# Altium footprint library PCB_LIB.PcbLib: 86 footprints (part 1 of 6)
Each footprint in its own frame and in the unit in brackets; x right, y up, seen from the top. Pads: shape width x height; smd on the part's side, far side on the other; paste and mask are expansions set on the pad; w line width, h text height; cw(c..) or ccw(c..) is an arc to the next point about the centre after c.
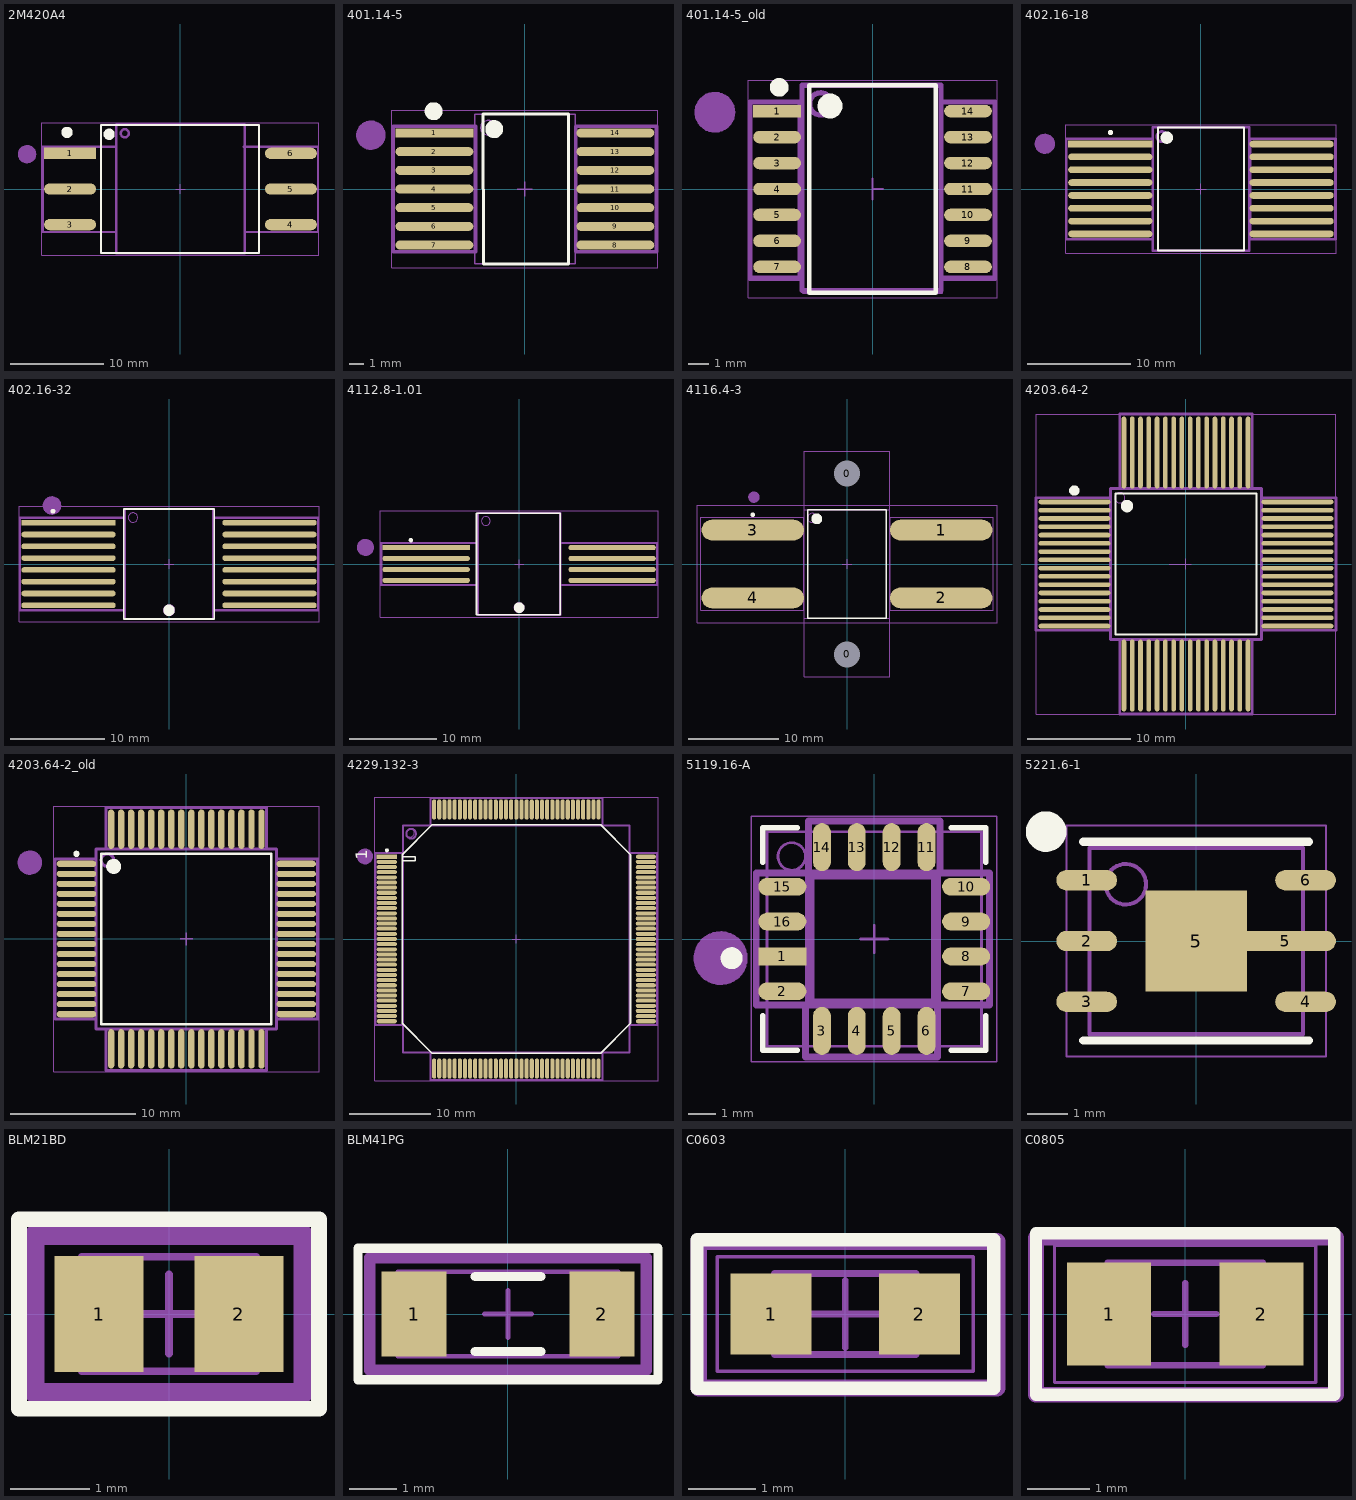
[diagram p0: the footprints below, top view; thin cyan lines are the x and y axes]

## 2М420А4 [mm] "CFP, 6-Leads, Body 13,70x13,70mm (max), Pitch 3,81mm, IPC Medium Density"
height 6.6
pads (6):
  rect 5.55x1.2 smd: 1(-11.8,3.81)
  oval 5.55x1.2 smd: 2(-11.8,0) 3(-11.8,-3.81) 4(11.8,-3.81) 5(11.8,0) 6(11.8,3.81)
Top Overlay:
  circle w0.6: c-12.125,6.05 r0.3
  circle w0.6: c-7.625,5.85 r0.3
  lines w0.2: -8.5,-6.85 -8.5,6.85 8.4,6.85 8.4,-6.85 -8.5,-6.85
Top Sborka:
  circle w0.25: c-16.392,3.719 r0.704
  circle w0.25: c-16.392,3.719 r0.292
  circle w0.25: c-16.392,3.719 r0.861
  circle w0.25: c-16.392,3.719 r0.506
  circle w0.25: c-16.392,3.719 r0.09
  circle w0.8: c-16.392,3.719 r0.4
  circle w0.25: c-5.95,5.95 r0.43
  lines w0.25: -6.9,-4.6 -14.7,-4.6 -14.7,4.5 -9.6,4.5 -6.9,4.5 ; 6.771,4.518 14.682,4.518 14.7,4.5 14.7,-4.6 6.9,-4.6 ; -6.85,-6.85 -6.85,6.85 6.85,6.85 6.85,-6.85 -6.85,-6.85
Mechanical 13:
  circle w0.1: c-5.95,5.95 r0.5
  lines w0.1: -6.85,-6.85 -6.85,6.85 6.85,6.85 6.85,-6.85 -6.85,-6.85
Mechanical 15:
  lines w0.05: -14.8,-7.1 -14.8,7.1 14.8,7.1 14.8,-7.1 -14.8,-7.1
  lines w0.1: -0.5,0 0.5,0 ; 0,-0.5 0,0.5
Top Designator (Mech16):
  text ".Designator" at -5.15,-0.547 h2.5
3D body: height 6.6, standoff 0.2, extent -6.85,-6.85 6.85,6.85

## 401.14-5 [mm] "CFP, 14-Leads, Body 10,00x6,70mm (max), Pitch 1,25mm, IPC Medium Density"
height 1.92
pads (14):
  rect 5.2x0.6 smd: 1(-6.05,3.75)
  oval 5.2x0.6 smd: 2(-6.05,2.5) 3(-6.05,1.25) 4(-6.05,0) 5(-6.05,-1.25) 6(-6.05,-2.5) 7(-6.05,-3.75) 8(6.05,-3.75) 9(6.05,-2.5) 10(6.05,-1.25) 11(6.05,0) 12(6.05,1.25) 13(6.05,2.5) 14(6.05,3.75)
Top Overlay:
  circle w0.6: c-6.1,5.2 r0.3
  circle w0.6: c-2.05,4 r0.3
  lines w0.2: -2.807,5 -2.757,-5 2.9,-5 2.9,5 -2.807,5
Top Sborka:
  circle w0.25: c-10.3,3.6 r0.704
  circle w0.25: c-10.3,3.6 r0.292
  circle w0.25: c-10.3,3.6 r0.861
  circle w0.25: c-10.3,3.6 r0.506
  circle w0.25: c-10.3,3.6 r0.09
  circle w0.6: c-10.3,3.6 r0.3
  circle w0.8: c-10.3,3.6 r0.4
  circle w0.1: c-2.45,4.1 r0.5
  lines w0.1: -3.35,-5 3.35,-5 3.35,5 -3.35,5 -3.35,-5
  lines w0.25: -8.8,-4.2 -3.3,-4.2 -3.3,4.2 -8.8,4.2 -8.8,-4.2 ; 3.4,-4.2 8.8,-4.2 8.8,4.2 3.4,4.2 3.4,-4.2
Mechanical 15:
  lines w0.05: -8.9,-5.25 8.9,-5.25 8.9,5.25 -8.9,5.25 -8.9,-5.25
  lines w0.1: -0.5,0 0.5,0 ; 0,-0.5 0,0.5
Top Designator (Mech16):
  text ".Designator" at -5.15,-0.547 h2.5
3D body "401.14-5-1.step": height 1.92, standoff 0, extent -8.25,-5 8.25,5

## 401.14-5_old [mm] "CFP, 14-Leads, Body 10,00x6,70mm (max), Pitch 1,25mm, IPC Medium Density"
height 2
pads (14):
  rect 2.3x0.6 smd: 1(-4.6,3.75)
  oval 2.3x0.6 smd: 2(-4.6,2.5) 3(-4.6,1.25) 4(-4.6,0) 5(-4.6,-1.25) 6(-4.6,-2.5) 7(-4.6,-3.75) 8(4.6,-3.75) 9(4.6,-2.5) 10(4.6,-1.25) 11(4.6,0) 12(4.6,1.25) 13(4.6,2.5) 14(4.6,3.75)
Top Overlay:
  circle w0.6: c-2.05,4 r0.3
  circle w0.5: c-4.5,4.9 r0.2
  lines w0.2: -3.05,-5 3.05,-5 3.05,5 -3.05,5 -3.05,-5
Top Sborka:
  circle w0.25: c-7.6,3.7 r0.704
  circle w0.25: c-7.6,3.7 r0.292
  circle w0.25: c-7.6,3.7 r0.861
  circle w0.25: c-7.6,3.7 r0.506
  circle w0.25: c-7.6,3.7 r0.09
  circle w0.6: c-7.6,3.7 r0.3
  circle w0.25: c-2.5,4.1 r0.539
  circle w0.8: c-7.6,3.7 r0.4
  lines w0.25: -5.9,-4.3 -3.5,-4.3 -3.5,4.2 -5.9,4.2 -5.9,-4.3 ; -3.4,-4.9 3.3,-4.9 3.3,5 -3.4,5 -3.4,-4.9 ; 3.3,-4.3 5.9,-4.3 5.9,4.2 3.3,4.2 3.3,-4.3
Mechanical 13:
  circle w0.1: c-2.45,4.1 r0.5
  lines w0.1: -3.35,-5 3.35,-5 3.35,5 -3.35,5 -3.35,-5
Mechanical 15:
  lines w0.05: -6,-5.25 6,-5.25 6,5.25 -6,5.25 -6,-5.25
  lines w0.1: 0,-0.5 0,0.5 ; 0,0 0.5,0
Top Designator (Mech16):
  text ".Designator" at -5.15,-0.547 h2.5
3D body "401.14-5.step": height 1.9, standoff 0, extent -5.34,-5 5.34,5

## 402.16-18 [mm] "CFP, 16-Leads, Body 12,00x9,45mm (max), Pitch 1,25mm, IPC Medium Density"
height 2.5
pads (16):
  rect 8.2x0.65 smd: 1(-8.825,4.375)
  oval 8.2x0.65 smd: 2(-8.825,3.125) 3(-8.825,1.875) 4(-8.825,0.625) 5(-8.825,-0.625) 6(-8.825,-1.875) 7(-8.825,-3.125) 8(-8.825,-4.375) 9(8.825,-4.375) 10(8.825,-3.125) 11(8.825,-1.875) 12(8.825,-0.625) 13(8.825,0.625) 14(8.825,1.875) 15(8.825,3.125) 16(8.825,4.375)
Top Overlay:
  circle w0.6: c-3.325,5 r0.3
  circle w0.25: c-8.8,5.5 r0.125
  lines w0.2: -4.2,-6 -4.2,6 4.2,6 4.2,-6 -4.2,-6
Top Sborka:
  circle w0.8: c-15.14,4.336 r0.4
  circle w0.25: c-3.8,5.1 r0.5
  circle w0.6: c-15.2,4.4 r0.3
  circle w0.25: c-15.2,4.4 r0.09
  circle w0.25: c-15.2,4.4 r0.506
  circle w0.25: c-15.2,4.4 r0.861
  circle w0.25: c-15.2,4.4 r0.292
  circle w0.25: c-15.2,4.4 r0.704
  lines w0.25: -13.1,-4.9 -4.7,-4.9 -4.7,4.9 -13.1,4.9 -13.1,-4.9 ; -4.7,-6 4.7,-6 4.7,6 -4.7,6 -4.7,-6 ; 4.8,-4.9 13.1,-4.9 13.1,4.9 4.8,4.9 4.8,-4.9
Mechanical 13:
  circle w0.1: c-3.825,5.1 r0.5
  lines w0.1: -4.725,-6 -4.725,6 4.725,6 4.725,-6 -4.725,-6
Mechanical 15:
  lines w0.05: -13.15,-6.25 -13.15,6.25 13.15,6.25 13.15,-6.25 -13.15,-6.25
  lines w0.1: -0.5,0 0.5,0 ; 0,-0.5 0,0.5
Top Designator (Mech16):
  text ".Designator" at -5.15,-0.547 h2.5
3D body "402.16-18.step": height 2.5, standoff 0, extent -12.5,-6 12.5,6

## 402.16-32 [mm] "CFP, 16-Leads, Body 11,65x9,45mm (max), Pitch 1,25mm, IPC Medium Density"
height 2.5
pads (16):
  rect 10x0.6 smd: 1(-10.65,4.375)
  oval 10x0.6 smd: 2(-10.65,3.125) 3(-10.65,1.875) 4(-10.65,0.625) 5(-10.65,-0.625) 6(-10.65,-1.875) 7(-10.65,-3.125) 8(-10.65,-4.375) 9(10.65,-4.375) 10(10.65,-3.125) 11(10.65,-1.875) 12(10.65,-0.625) 13(10.65,0.625) 14(10.65,1.875) 15(10.65,3.125) 16(10.65,4.375)
Top Overlay:
  circle w0.6: c0,-4.9 r0.3
  circle w0.25: c-12.3,5.6 r0.125
  lines w0.2: -4.8,-5.825 -4.8,5.825 4.8,5.825 4.8,-5.825 -4.8,-5.825
Top Sborka:
  circle w0.25: c-12.4,6.2 r0.704
  circle w0.25: c-12.4,6.2 r0.292
  circle w0.25: c-12.4,6.2 r0.861
  circle w0.25: c-12.4,6.2 r0.506
  circle w0.25: c-12.4,6.2 r0.09
  circle w0.6: c-12.4,6.2 r0.3
  circle w0.25: c0,-4.9 r0.5
  circle w0.8: c-12.4,6.2 r0.4
  lines w0.25: -15.8,-4.9 -4.7,-4.9 -4.7,4.9 -15.8,4.9 -15.8,-4.9 ; -4.7,-5.825 4.7,-5.825 4.7,5.825 -4.7,5.825 -4.7,-5.825 ; 4.7,-4.9 15.8,-4.9 15.8,4.9 4.7,4.9 4.7,-4.9
Mechanical 13:
  circle w0.1: c-3.825,4.925 r0.5
  lines w0.1: -4.725,-5.825 -4.725,5.825 4.725,5.825 4.725,-5.825 -4.725,-5.825
Mechanical 15:
  lines w0.05: -15.9,-6.1 -15.9,6.1 15.9,6.1 15.9,-6.1 -15.9,-6.1
  lines w0.1: -0.5,0 0.5,0 ; 0,-0.5 0,0.5
Top Designator (Mech16):
  text ".Designator" at -5.15,-0.547 h2.5
3D body "402.16-32.step": height 1.8, standoff 0, extent -15.25,-5.825 15.25,5.825

## 4112.8-1.01 [mm] "CFP, 8-Leads, Body 11,65x9,45mm (max), Pitch 1,25mm, IPC Medium Density"
height 2.45
pads (8):
  rect 10x0.6 smd: 1(-10.65,1.875)
  oval 10x0.6 smd: 2(-10.65,0.625) 3(-10.65,-0.625) 4(-10.65,-1.875) 5(10.65,-1.875) 6(10.65,-0.625) 7(10.65,0.625) 8(10.65,1.875)
Top Overlay:
  circle w0.6: c0,-5 r0.3
  circle w0.25: c-12.4,2.725 r0.125
  lines w0.2: -4.9,-5.825 -4.9,5.825 4.7,5.825 4.7,-5.825 -4.9,-5.825
Top Sborka:
  circle w0.25: c-17.6,1.9 r0.704
  circle w0.25: c-17.6,1.9 r0.292
  circle w0.25: c-17.6,1.9 r0.861
  circle w0.25: c-17.6,1.9 r0.506
  circle w0.25: c-17.6,1.9 r0.09
  circle w0.6: c-17.6,1.9 r0.3
  circle w0.25: c0,-5 r0.5
  circle w0.8: c-17.6,1.9 r0.4
  lines w0.25: -15.8,-2.4 -4.7,-2.4 -4.7,2.4 -15.8,2.4 -15.8,-2.4 ; -4.7,-5.825 4.7,-5.825 4.7,5.825 -4.7,5.825 -4.7,-5.825 ; 4.7,-2.4 15.8,-2.4 15.8,2.4 4.7,2.4 4.7,-2.4
Mechanical 13:
  circle w0.1: c-3.825,4.925 r0.5
  lines w0.1: -4.725,-5.825 -4.725,5.825 4.725,5.825 4.725,-5.825 -4.725,-5.825
Mechanical 15:
  lines w0.05: -15.9,-6.1 -15.9,6.1 15.9,6.1 15.9,-6.1 -15.9,-6.1
  lines w0.1: -0.5,0 0.5,0 ; 0,-0.5 0,0.5
Top Designator (Mech16):
  text ".Designator" at -5.15,-0.547 h2.5
3D body "4112.8-1.01.step": height 1.78, standoff 0, extent -15.25,-5.825 15.25,5.825

## 4116.4-3 [mm] "CFP, 4-Leads, Body 12,00x9,50mm (max), Pitch 7,50mm, IPC Low Density"
height 3.1
pads (6):
  round 1.5 hole 2.9: 0(0,-10) 0(0,10)
  oval 11.35x2.3 smd: 1(10.425,3.75) 2(10.425,-3.75) 3(-10.425,3.75) 4(-10.425,-3.75)
Top Overlay:
  circle w0.25: c-10.425,5.45 r0.125
  circle w0.6: c-3.35,5 r0.3
  lines w0.2: -4.35,-6 4.35,-6 4.35,6 -4.35,6 -4.35,-6
Top Sborka:
  circle w0.25: c-10.3,7.4 r0.292
  circle w0.25: c-10.3,7.4 r0.506
  circle w0.25: c-10.3,7.4 r0.09
  circle w0.6: c-10.3,7.4 r0.3
  circle w0.1: c-3.85,5.1 r0.5
  lines w0.1: -16.2,-5.1 -4.8,-5.1 -4.8,5.2 -16.2,5.2 -16.2,-5.1 ; -4.75,-12.5 4.75,-12.5 4.75,12.5 -4.75,12.5 -4.75,-12.5 ; -4.75,-6 4.75,-6 4.75,6 -4.75,6 -4.75,-6 ; 4.8,-5.1 16.2,-5.1 16.2,5.2 4.8,5.2 4.8,-5.1
Mechanical 15:
  lines w0.05: -16.6,-6.5 16.6,-6.5 16.6,6.5 -16.6,6.5 -16.6,-6.5
  lines w0.1: -0.5,0 0.5,0 ; 0,-0.5 0,0.5
Top Designator (Mech16):
  text ".Designator" at -5.15,-0.547 h2.5
3D body "4116.4-3.step": height 3, standoff 0, extent -15.5,-6 15.5,6

## 4203.64-2 [mm] "QFP, 64-Leads, Body 14,60x14,60mm, Pitch 0,80mm, IPC Medium Density"
height 3.35
pads (64):
  oval 6.95x0.45 smd: 1(-10.775,6) 2(-10.775,5.2) 3(-10.775,4.4) 4(-10.775,3.6) 5(-10.775,2.8) 6(-10.775,2) 7(-10.775,1.2) 8(-10.775,0.4) 9(-10.775,-0.4) 10(-10.775,-1.2) 11(-10.775,-2) 12(-10.775,-2.8) 13(-10.775,-3.6) 14(-10.775,-4.4) 15(-10.775,-5.2) 16(-10.775,-6) 33(10.775,-6) 34(10.775,-5.2) 35(10.775,-4.4) 36(10.775,-3.6) 37(10.775,-2.8) 38(10.775,-2) 39(10.775,-1.2) 40(10.775,-0.4) 41(10.775,0.4) 42(10.775,1.2) 43(10.775,2) 44(10.775,2.8) 45(10.775,3.6) 46(10.775,4.4) 47(10.775,5.2) 48(10.775,6)
  oval 0.45x6.95 smd: 17(-6,-10.775) 18(-5.2,-10.775) 19(-4.4,-10.775) 20(-3.6,-10.775) 21(-2.8,-10.775) 22(-2,-10.775) 23(-1.2,-10.775) 24(-0.4,-10.775) 25(0.4,-10.775) 26(1.2,-10.775) 27(2,-10.775) 28(2.8,-10.775) 29(3.6,-10.775) 30(4.4,-10.775) 31(5.2,-10.775) 32(6,-10.775) 49(6,10.775) 50(5.2,10.775) 51(4.4,10.775) 52(3.6,10.775) 53(2.8,10.775) 54(2,10.775) 55(1.2,10.775) 56(0.4,10.775) 57(-0.4,10.775) 58(-1.2,10.775) 59(-2,10.775) 60(-2.8,10.775) 61(-3.6,10.775) 62(-4.4,10.775) 63(-5.2,10.775) 64(-6,10.775)
Top Overlay:
  circle w0.6: c-5.7,5.6 r0.3
  circle w0.5: c-10.8,7.1 r0.25
  lines w0.2: -6.8,-6.8 6.8,-6.8 6.8,6.8 -6.8,6.8 -6.8,-6.8
Top Sborka:
  circle w0.1: c-6.4,6.4 r0.5
  lines w0.25: -14.5,-6.4 -14.5,6.4 -7.3,6.4 -7.3,-6.4 -14.5,-6.4 ; -7.3,-7.3 7.3,-7.3 7.3,7.3 -7.3,7.3 -7.3,-7.3 ; -6.4,-14.5 6.4,-14.5 6.4,-7.3 -6.4,-7.3 -6.4,-14.5 ; -6.4,7.3 6.4,7.3 6.4,14.5 -6.4,14.5 -6.4,7.3 ; 7.3,-6.4 7.3,6.4 14.5,6.4 14.5,-6.4 7.3,-6.4
Mechanical 15:
  lines w0.05: -14.5,-14.5 14.5,-14.5 14.5,14.5 -14.5,14.5 -14.5,-14.5
  lines w0.1: -1.625,0 0.5,0 ; 0,-0.5 0,0.5
Top Designator (Mech16):
  text ".Designator" at -5.15,-0.547 h2.5
3D body "4203.64-2.step": height 3.35, standoff 0, extent -13.65,-13.65 13.65,13.65

## 4203.64-2_old [mm] "QFP, 64-Leads, Body 14,35x14,35mm, Pitch 0,80mm, IPC Medium Density"
height 3.35
pads (64):
  oval 3.15x0.5 smd: 1(-8.775,6) 2(-8.775,5.2) 3(-8.775,4.4) 4(-8.775,3.6) 5(-8.775,2.8) 6(-8.775,2) 7(-8.775,1.2) 8(-8.775,0.4) 9(-8.775,-0.4) 10(-8.775,-1.2) 11(-8.775,-2) 12(-8.775,-2.8) 13(-8.775,-3.6) 14(-8.775,-4.4) 15(-8.775,-5.2) 16(-8.775,-6) 33(8.775,-6) 34(8.775,-5.2) 35(8.775,-4.4) 36(8.775,-3.6) 37(8.775,-2.8) 38(8.775,-2) 39(8.775,-1.2) 40(8.775,-0.4) 41(8.775,0.4) 42(8.775,1.2) 43(8.775,2) 44(8.775,2.8) 45(8.775,3.6) 46(8.775,4.4) 47(8.775,5.2) 48(8.775,6)
  oval 0.5x3.15 smd: 17(-6,-8.775) 18(-5.2,-8.775) 19(-4.4,-8.775) 20(-3.6,-8.775) 21(-2.8,-8.775) 22(-2,-8.775) 23(-1.2,-8.775) 24(-0.4,-8.775) 25(0.4,-8.775) 26(1.2,-8.775) 27(2,-8.775) 28(2.8,-8.775) 29(3.6,-8.775) 30(4.4,-8.775) 31(5.2,-8.775) 32(6,-8.775) 49(6,8.775) 50(5.2,8.775) 51(4.4,8.775) 52(3.6,8.775) 53(2.8,8.775) 54(2,8.775) 55(1.2,8.775) 56(0.4,8.775) 57(-0.4,8.775) 58(-1.2,8.775) 59(-2,8.775) 60(-2.8,8.775) 61(-3.6,8.775) 62(-4.4,8.775) 63(-5.2,8.775) 64(-6,8.775)
Top Overlay:
  circle w0.6: c-5.8,5.8 r0.3
  circle w0.25: c-8.775,6.8 r0.125
  lines w0.2: -6.8,-6.8 6.8,-6.8 6.8,6.8 -6.8,6.8 -6.8,-6.8
Top Sborka:
  circle w0.8: c-12.5,6.1 r0.4
  circle w0.25: c-6.3,6.3 r0.5
  circle w0.6: c-12.5,6.1 r0.3
  circle w0.25: c-12.5,6.1 r0.09
  circle w0.25: c-12.5,6.1 r0.506
  circle w0.25: c-12.5,6.1 r0.861
  circle w0.25: c-12.5,6.1 r0.292
  circle w0.25: c-12.5,6.1 r0.704
  lines w0.25: -10.5,-6.4 -7.2,-6.4 -7.2,6.4 -10.5,6.4 -10.5,-6.4 ; -7.2,-7.2 7.197,-7.2 7.197,7.2 -7.2,7.2 -7.2,-7.2 ; -6.4,-10.5 -6.4,-7.2 6.4,-7.2 6.4,-10.5 -6.4,-10.5 ; -6.4,7.2 -6.4,10.5 6.4,10.5 6.4,7.2 -6.4,7.2 ; 7.2,-6.4 10.5,-6.4 10.5,6.4 7.2,6.4 7.2,-6.4
Mechanical 13:
  circle w0.1: c-6.3,6.3 r0.5
  lines w0.1: -7.2,-7.2 7.2,-7.2 7.2,7.2 -7.2,7.2 -7.2,-7.2
Mechanical 15:
  lines w0.05: -10.6,-10.6 10.6,-10.6 10.6,10.6 -10.6,10.6 -10.6,-10.6
  lines w0.1: -0.5,0 0.5,0 ; 0,-0.5 0,0.5
Top Designator (Mech16):
  text ".Designator" at -5.15,-0.547 h2.5
3D body "4203.64-2.step": height 3.35, standoff 0, extent -8.95,-8.95 8.95,8.95

## 4229.132-3 [mm] "CQFP, 132-Leads, Body 33,29x33,29mm, Pitch 0,64mm, IPC Medium Density"
height 3.4
pads (132):
  rect 2.5x0.5 smd: 1(-16,10.16)
  oval 2.5x0.5 smd: 2(-16,9.525) 3(-16,8.89) 4(-16,8.255) 5(-16,7.62) 6(-16,6.985) 7(-16,6.35) 8(-16,5.715) 9(-16,5.08) 10(-16,4.445) 11(-16,3.81) 12(-16,3.175) 13(-16,2.54) 14(-16,1.905) 15(-16,1.27) 16(-16,0.635) 17(-16,0) 18(-16,-0.635) 19(-16,-1.27) 20(-16,-1.905) 21(-16,-2.54) 22(-16,-3.175) 23(-16,-3.81) 24(-16,-4.445) 25(-16,-5.08) 26(-16,-5.715) 27(-16,-6.35) 28(-16,-6.985) 29(-16,-7.62) 30(-16,-8.255) 31(-16,-8.89) 32(-16,-9.525) 33(-16,-10.16) 67(16,-10.16) 68(16,-9.525) 69(16,-8.89) 70(16,-8.255) 71(16,-7.62) 72(16,-6.985) 73(16,-6.35) 74(16,-5.715) 75(16,-5.08) 76(16,-4.445) 77(16,-3.81) 78(16,-3.175) 79(16,-2.54) 80(16,-1.905) 81(16,-1.27) 82(16,-0.635) 83(16,0) 84(16,0.635) 85(16,1.27) 86(16,1.905) 87(16,2.54) 88(16,3.175) 89(16,3.81) 90(16,4.445) 91(16,5.08) 92(16,5.715) 93(16,6.35) 94(16,6.985) 95(16,7.62) 96(16,8.255) 97(16,8.89) 98(16,9.525) 99(16,10.16)
  oval 0.5x2.5 smd: 34(-10.16,-16) 35(-9.525,-16) 36(-8.89,-16) 37(-8.255,-16) 38(-7.62,-16) 39(-6.985,-16) 40(-6.35,-16) 41(-5.715,-16) 42(-5.08,-16) 43(-4.445,-16) 44(-3.81,-16) 45(-3.175,-16) 46(-2.54,-16) 47(-1.905,-16) 48(-1.27,-16) 49(-0.635,-16) 50(0,-16) 51(0.635,-16) 52(1.27,-16) 53(1.905,-16) 54(2.54,-16) 55(3.175,-16) 56(3.81,-16) 57(4.445,-16) 58(5.08,-16) 59(5.715,-16) 60(6.35,-16) 61(6.985,-16) 62(7.62,-16) 63(8.255,-16) 64(8.89,-16) 65(9.525,-16) 66(10.16,-16) 100(10.16,16) 101(9.525,16) 102(8.89,16) 103(8.255,16) 104(7.62,16) 105(6.985,16) 106(6.35,16) 107(5.715,16) 108(5.08,16) 109(4.445,16) 110(3.81,16) 111(3.175,16) 112(2.54,16) 113(1.905,16) 114(1.27,16) 115(0.635,16) 116(0,16) 117(-0.635,16) 118(-1.27,16) 119(-1.905,16) 120(-2.54,16) 121(-3.175,16) 122(-3.81,16) 123(-4.445,16) 124(-5.08,16) 125(-5.715,16) 126(-6.35,16) 127(-6.985,16) 128(-7.62,16) 129(-8.255,16) 130(-8.89,16) 131(-9.525,16) 132(-10.16,16)
Top Overlay:
  circle w0.25: c-16,10.96 r0.125
  lines w0.2: -14,9.65 -12.5,9.65 -12.5,10.15 -14,10.15 ; -14.1,-10.41 -14.1,10.41 -10.41,14.1 10.41,14.1 14.1,10.41 14.1,-10.41 10.41,-14.1 -10.41,-14.1 -14.1,-10.41
  text "1" at -17.9,9.8 h2.5
Top Sborka:
  circle w0.8: c-18.5,10.2 r0.4
  circle w0.25: c-13,13 r0.6
  circle w0.6: c-18.5,10.2 r0.3
  circle w0.25: c-18.7,10.2 r0.09
  circle w0.25: c-18.7,10.2 r0.506
  circle w0.25: c-18.7,10.2 r0.861
  circle w0.25: c-18.7,10.2 r0.292
  circle w0.25: c-18.7,10.2 r0.704
  lines w0.25: -17.4,-10.638 -14.01,-10.638 -14.01,10.6 -17.4,10.6 -17.4,-10.638 ; -14,-14 14,-14 14,14 -14,14 -14,-14 ; -10.6,-17.39 -10.6,-14 10.638,-14 10.638,-17.39 -10.6,-17.39 ; -10.6,14 -10.6,17.39 10.638,17.39 10.638,14 -10.6,14 ; 14,-10.638 17.39,-10.638 17.39,10.6 14,10.6 14,-10.638
Mechanical 13:
  circle w0.1: c-13.1,13.1 r0.5
  lines w0.1: -14,-14 14,-14 14,14 -14,14 -14,-14
Mechanical 15:
  lines w0.05: -17.5,-17.5 17.5,-17.5 17.5,17.5 -17.5,17.5 -17.5,-17.5
  lines w0.1: -0.5,0 0.5,0 ; 0,-0.5 0,0.5
Top Designator (Mech16):
  text ".Designator" at -5.15,-0.547 h2.5
3D body "4229.132-3.step": height 3.15, standoff 0, extent -16.895,-16.895 16.895,16.895

## 5119.16-А [mm] "QFN, 16-Leads, Body 7,62x7,62mm, Pitch 1,27mm, IPC Medium Density"
height 2.3
pads (16):
  rect 1.75x0.65 smd: 1(-3.35,-0.635)
  oval 1.75x0.65 smd: 2(-3.35,-1.905) 7(3.35,-1.905) 8(3.35,-0.635) 9(3.35,0.635) 10(3.35,1.905) 15(-3.35,1.905) 16(-3.35,0.635)
  oval 0.65x1.75 smd: 3(-1.905,-3.35) 4(-0.635,-3.35) 5(0.635,-3.35) 6(1.905,-3.35) 11(1.905,3.35) 12(0.635,3.35) 13(-0.635,3.35) 14(-1.905,3.35)
Top Overlay:
  circle w0.4: c-5.2,-0.7 r0.2
  lines w0.2: -4.06,-2.8 -4.06,-4.06 -2.8,-4.06 ; -4.06,2.8 -4.06,4.06 -2.8,4.06 ; 2.8,-4.06 4.06,-4.06 4.06,-2.8 ; 2.8,4.06 4.06,4.06 4.06,2.8
Top Sborka:
  circle w0.25: c-5.6,-0.7 r0.704
  circle w0.25: c-5.6,-0.7 r0.292
  circle w0.25: c-5.6,-0.7 r0.861
  circle w0.25: c-5.6,-0.7 r0.506
  circle w0.25: c-5.6,-0.7 r0.09
  circle w0.6: c-5.6,-0.7 r0.3
  circle w0.8: c-5.6,-0.7 r0.4
  lines w0.25: -2.4,2.4 2.4,2.4 2.4,4.3 -2.4,4.3 -2.4,2.4 ; -2.4,2.4 -2.4,-2.4 -4.3,-2.4 -4.3,2.4 -2.4,2.4 ; 2.3,-2.4 2.3,2.4 4.2,2.4 4.2,-2.4 2.3,-2.4 ; 2.3,-2.4 -2.5,-2.4 -2.5,-4.3 2.3,-4.3 2.3,-2.4 ; -2.3,-2.3 2.2,-2.3 2.2,2.3 -2.3,2.3 -2.3,-2.3
Mechanical 13:
  circle w0.1: c-3.01,3.01 r0.5
  lines w0.1: -3.91,-3.91 -3.91,3.91 3.91,3.91 3.91,-3.91 -3.91,-3.91
Mechanical 15:
  lines w0.05: -4.475,-4.475 -4.475,4.475 4.475,4.475 4.475,-4.475 -4.475,-4.475
  lines w0.1: -0.5,0 0.5,0 ; 0,-0.5 0,0.5
Top Designator (Mech16):
  text ".Designator" at -5.15,-0.547 h2.5
3D body: height 2.3, standoff 0, extent -3.91,-3.91 3.91,3.91

## 5221.6-1 [mm] "QFN, 6-Leads, Body 5,14x4,45mm, Pitch 1,50mm, IPC Medium Density"
height 1.7
pads (7):
  oval 1.5x0.5 smd: 1(-2.7,1.5) 2(-2.7,0) 3(-2.7,-1.5) 4(2.7,-1.5) 6(2.7,1.5)
  rect 2.5x2.5 / inner rect 0x0 / far side rect 0x0 all layers, no hole: 5(0,0)
  oval 2.5x0.5 smd mask+0.102: 5(2.2,0)
Top Overlay:
  circle w0.5: c-3.7,2.7 r0.25
  lines w0.2: -2.785,-2.45 0.125,-2.45 ; -2.785,2.45 0.125,2.45 ; -0.125,-2.45 2.785,-2.45 ; -0.125,2.45 2.785,2.45
Top Paste:
  rectangle: -1.25,-1.25 1.25,1.25
Top Sborka:
  circle w0.1: c-1.735,1.4 r0.5
  lines w0.1: -2.635,-2.3 -2.635,2.3 2.635,2.3 2.635,-2.3 -2.635,-2.3
Mechanical 15:
  lines w0.05: -3.2,-2.85 -3.2,2.85 3.2,2.85 3.2,-2.85 -3.2,-2.85
  lines w0.1: -0.5,0 0.5,0 ; 0,-0.5 0,0.5
Top Designator (Mech16):
  text ".Designator" at -5.15,-0.547 h2.5
3D body "5221.6-1.step": height 1.7, standoff 0.3, extent -2.635,-2.3 2.635,2.3

## BLM21BD [mm] "Chip Inductor, 2-Leads, Body 2,00x1,25mm, IPC Medium Density"
height 1.05
pads (2):
  rect 1.13x1.47 smd: 1(-0.885,0) 2(0.885,0)
Top Overlay:
  lines w0.2: -1.9,-1.2 1.9,-1.2 1.9,1.2 -1.9,1.2 -1.9,-1.2
Top Sborka:
  lines w0.25: -1.7,-1 1.7,-1 1.7,1 -1.7,1 -1.7,-1
Mechanical 13:
  lines w0.1: -1.1,-0.725 -1.1,0.725 1.1,0.725 1.1,-0.725 -1.1,-0.725
Mechanical 15:
  lines w0.05: -1.7,-1 -1.7,1 1.7,1 1.7,-1 -1.7,-1
  lines w0.1: -0.5,0 0.5,0 ; 0,-0.5 0,0.5
Top Designator (Mech16):
  text ".Designator" at -5.15,-0.547 h2.5
3D body "BLM21BD.step": height 1.05, standoff 0, extent -1.1,-0.725 1.1,0.725

## BLM41PG [mm] "Chip Inductor, 2-Leads, Body 4,50x1,60mm, IPC Medium Density"
height 1.8
pads (2):
  rect 1.39x1.82 smd: 1(-2.005,0) 2(2.005,0)
Top Overlay:
  lines w0.2: -0.7,-0.8 0.7,-0.8 ; -0.7,0.8 0.7,0.8 ; -3.2,-1.4 3.2,-1.4 3.2,1.4 -3.2,1.4 -3.2,-1.4
Top Sborka:
  lines w0.25: -2.95,-1.2 2.95,-1.2 2.95,1.2 -2.95,1.2 -2.95,-1.2
Mechanical 13:
  lines w0.1: -2.35,-0.9 -2.35,0.9 2.35,0.9 2.35,-0.9 -2.35,-0.9
Mechanical 15:
  lines w0.05: -2.95,-1.2 -2.95,1.2 2.95,1.2 2.95,-1.2 -2.95,-1.2
  lines w0.1: -0.5,0 0.5,0 ; 0,-0.5 0,0.5
Top Designator (Mech16):
  text ".Designator" at -5.15,-0.547 h2.5
3D body "INDChip.step": height 1.8, standoff 0, extent -2.35,-0.9 2.35,0.9

## C0603 [mm] "Chip Capacitor, 2-Leads, Body 1,75x0,95mm, IPC Medium Density"
height 0.8
pads (2):
  rect 1.2x1.2 smd: 1(-1.1,0) 2(1.1,0)
Top Overlay:
  lines w0.2: -2.2,-1.1 2.2,-1.1 2.2,1.1 -2.2,1.1 -2.2,-1.1
Top Sborka:
  lines w0.25: -2.175,-1.1 2.25,-1.1 2.25,1.075 -2.175,1.075 -2.175,-1.1
Mechanical 13:
  lines w0.1: -1.05,-0.6 1.05,-0.6 1.05,0.6 -1.05,0.6 -1.05,-0.6
Mechanical 15:
  lines w0.05: -1.9,-0.85 -1.9,0.85 1.9,0.85 1.9,-0.85 -1.9,-0.85
  lines w0.1: -0.5,0 0.5,0 ; 0,-0.5 0,0.5
Top Designator (Mech16):
  text ".Designator" at -5.15,-0.547 h2.5
3D body "C0603.step": height 0.8, standoff 0, extent -1.05,-0.6 1.05,0.6

## C0805 [mm] "Chip Capacitor, 2-Leads, Body 2,10x1,35mm, IPC Medium Density"
height 1
pads (2):
  rect 1.35x1.65 smd: 1(-1.225,0) 2(1.225,0)
Top Overlay:
  lines w0.2: -2.4,-1.3 2.4,-1.3 2.4,1.3 -2.4,1.3 -2.4,-1.3
Top Sborka:
  lines w0.25: -2.4,-1.3 2.425,-1.3 2.425,1.225 -2.4,1.225 -2.4,-1.3
Mechanical 13:
  lines w0.1: -1.25,-0.825 -1.25,0.825 1.25,0.825 1.25,-0.825 -1.25,-0.825
Mechanical 15:
  lines w0.05: -2.1,-1.1 2.1,-1.1 2.1,1.1 -2.1,1.1 -2.1,-1.1
  lines w0.1: -0.5,0 0.5,0 ; 0,-0.5 0,0.5
Top Designator (Mech16):
  text ".Designator" at -5.15,-0.547 h2.5
3D body "C0805.step": height 1, standoff 0, extent -1.25,-0.825 1.25,0.825